# EAGLE library part 615006149421M (library 632723100011_Eagle_WR-USB_rev19b)
WR-MJ_Modular Jack_Tab UP_6P6C_Middle Assembly 6P6C Tab UP_Middle Assemblyt Housing <http://katalog.we-online.de/media/images/eican/Con_WR-MJ_Horizontal_Plastic_6150xx149421_pf2.jpg> Details see: http://katalog.we-online.de/en/em/MJ_HORIZONTAL_PLASTIC_ASSEMBLY_6P6C_TAB_UP Created 2014-12-22, aslant tao 2014 (C) Würth Elektronik
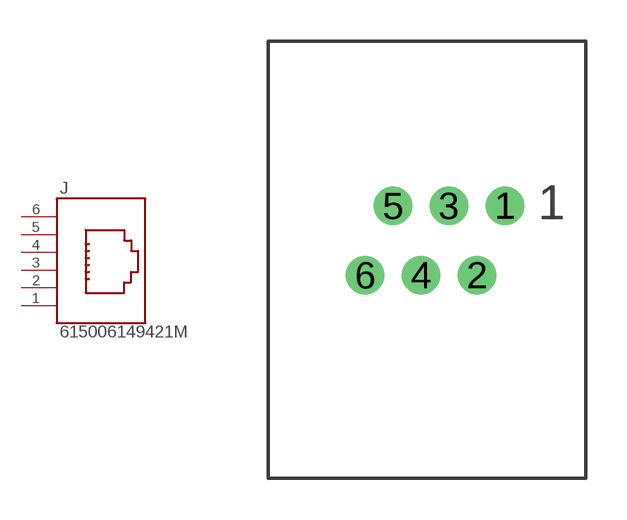
[diagram p153: symbol with the pads of 615006149421M; footprint 615006149421M]

Designator prefix J

## 615006149421M  [615006149421M]
1  1  pas
2  2  pas
3  3  pas
4  4  pas
5  5  pas
6  6  pas

## Footprint 615006149421M (pad centres in mm)
WR-MJ_Modular Jack_Tab UP_6P6C_Middle Assembly
drill 0.9: 1 4.08,0; 2 3.06,-2.54; 3 2.04,0; 4 1.02,-2.54; 5 0,0; 6 -1.02,-2.54